# EAGLE library part ATTINY4,5,9,10 (library atmel)
8bit Microcontroller Source: http://www.atmel.com/ja/jp/Images/Atmel-8127-AVR-8-bit-Microcontroller-ATtiny4-ATtiny5-ATtiny9-ATtiny10_Datasheet.pdf 512/512/1024/1024 Bytes Flash 32 Byte Internal SRAM
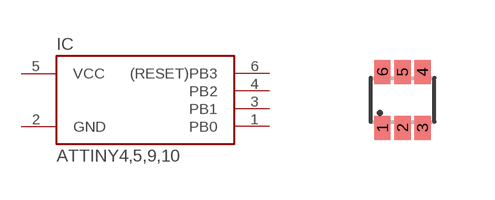
[diagram p4: symbol with the pads of SOT-23; footprint SOT-23]

Designator prefix IC

## ATTINY4,5,9,10  [SOT-23]
1  PB0
2  GND  pwr
3  PB1
4  PB2
5  VCC  pwr
6  (RESET)PB3

## Footprint SOT-23 (pad centres in mm)
SOT-23
smd 0.4 x 0.6: 1 -0.5,-0.7; 2 0,-0.7; 3 0.5,-0.7; 4 0.5,0.7; 5 0,0.7; 6 -0.5,0.7